# EAGLE library part USB-MICROB (library TL-WR703N)
Micro-USB B Socket, 6 Shield Pins Copyright © 2012, Michel Stempin, All rights reserved Licenced under Creative Commons CC BY-SA 3.0 <http://creativecommons.org/licenses/by-sa/3.0/deed.en> license.
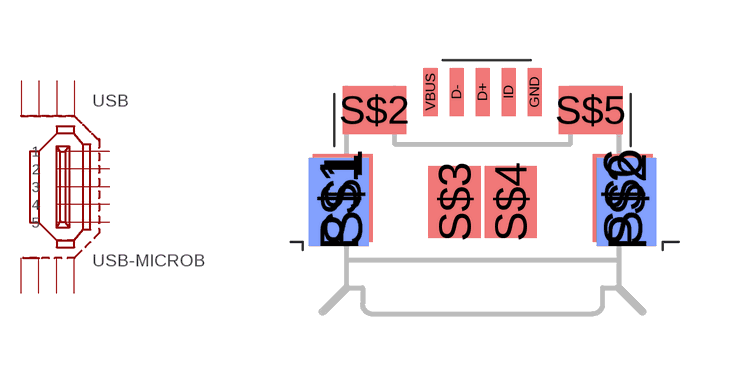
[diagram p3: symbol with the pads of USB-MICROB; footprint USB-MICROB]

Designator prefix USB

## USB-MICROB  [USB-MICROB]
D+  3  pas
D-  2  pas
GND  1  pas
ID  4  pas
P$1  M0  pas
P$2  M7  pas
S$1  M1  pas
S$2  M2  pas
S$3  M3  pas
S$4  M4  pas
S$5  M5  pas
S$6  M6  pas
VBUS  5  pas

## Footprint USB-MICROB (pad centres in mm)
Micro-USB B Socket Copyright © 2012, Michel Stempin, All rights reserved Licenced under Creative Commons CC BY-SA 3.0 <http://creativecommons.org/licenses/by-sa/3.0/deed.en> license.
smd 0.35 x 1.2: D+ 0,2.65; D- -0.65,2.65; GND 1.3,2.65; ID 0.65,2.65; VBUS -1.3,2.65
smd 1.5 x 2.2 bottom: P$1 -3.6,-0.1; P$2 3.6,-0.1
smd 1.5 x 2.2: S$1 -3.5,0; S$6 3.5,0
smd 1.6 x 1.2: S$2 -2.7,2.2; S$5 2.7,2.2
smd 1.3 x 1.8: S$3 -0.7,-0.1; S$4 0.7,-0.1